# EAGLE library part MAX9708ECB (library Audio-Power-amlifier V.2.0)
The MAX9708 mono/stereo, Class D audio power amplifier delivers up to 2 x 21W into an 8Ω stereo mode and 1 x 42W into a 4Ω load in mono mode while offering up to 87% efficiency. The MAX9708 provides Class AB amplifier performance with the benefits of Class D efficiency, eliminating the need for a bulky heatsink and conserving power. The MAX9708 operates from a single +10V to +18V supply, driving the load in a BTL configuration. The MAX9708
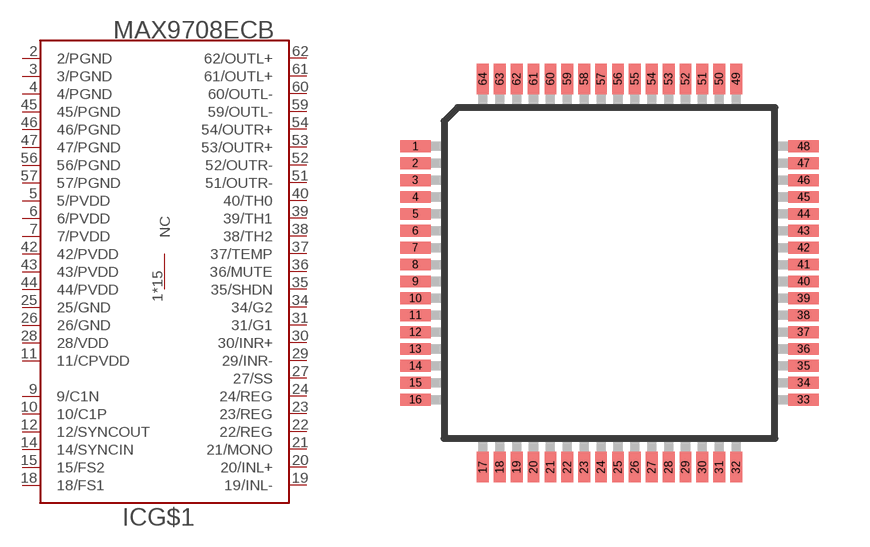
[diagram p236: symbol with the pads of TQFP64L-10X10X2.0MM; footprint TQFP64L-10X10X2.0MM]

Designator prefix IC; gates G$1=MAX9708ECB G$2=NC

## MAX9708ECBMAX9708ECB  [TQFP64L-10X10X2.0MM]
1  G$2:NC  nc
2  G$1:2/PGND  pwr
3  G$1:3/PGND  pwr
4  G$1:4/PGND  pwr
5  G$1:5/PVDD  pwr
6  G$1:6/PVDD  pwr
7  G$1:7/PVDD  pwr
8  G$2:NC  nc
9  G$1:9/C1N
10  G$1:10/C1P
11  G$1:11/CPVDD  pwr
12  G$1:12/SYNCOUT  out
13  G$2:NC  nc
14  G$1:14/SYNCIN  in
15  G$1:15/FS2
16  G$2:NC  nc
17  G$2:NC  nc
18  G$1:18/FS1
19  G$1:19/INL-  in
20  G$1:20/INL+  in
21  G$1:21/MONO  in
22  G$1:22/REG  out
23  G$1:23/REG  out
24  G$1:24/REG  out
25  G$1:25/GND  pwr
26  G$1:26/GND  pwr
27  G$1:27/SS
28  G$1:28/VDD  pwr
29  G$1:29/INR-  in
30  G$1:30/INR+  in
31  G$1:31/G1  in
32  G$2:NC  nc
33  G$2:NC  nc
34  G$1:34/G2  in
35  G$1:35/SHDN  in
36  G$1:36/MUTE  in
37  G$1:37/TEMP  out
38  G$1:38/TH2  in
39  G$1:39/TH1  in
40  G$1:40/TH0  in
41  G$2:NC  nc
42  G$1:42/PVDD  pwr
43  G$1:43/PVDD  pwr
44  G$1:44/PVDD  pwr
45  G$1:45/PGND  pwr
46  G$1:46/PGND  pwr
47  G$1:47/PGND  pwr
48  G$2:NC  nc
49  G$2:NC  nc
50  G$2:NC  nc
51  G$1:51/OUTR-  out
52  G$1:52/OUTR-  out
53  G$1:53/OUTR+  out
54  G$1:54/OUTR+  out
55  G$2:NC  nc
56  G$1:56/PGND  pwr
57  G$1:57/PGND  pwr
58  G$2:NC  nc
59  G$1:59/OUTL-  out
60  G$1:60/OUTL-  out
61  G$1:61/OUTL+  out
62  G$1:62/OUTL+  out
63  G$2:NC  nc
64  G$2:NC  nc

## Footprint TQFP64L-10X10X2.0MM (pad centres in mm)
TQFP 64L-10X10X1,4 MM www.maxim-ic.com/packages
smd 0.9 x 0.35: 1 -5.75,3.75; 2 -5.75,3.25; 3 -5.75,2.75; 4 -5.75,2.25; 5 -5.75,1.75; 6 -5.75,1.25; 7 -5.75,0.75; 8 -5.75,0.25; 9 -5.75,-0.25; 10 -5.75,-0.75; 11 -5.75,-1.25; 12 -5.75,-1.75; 13 -5.75,-2.25; 14 -5.75,-2.75; 15 -5.75,-3.25; 16 -5.75,-3.75; 33 5.75,-3.75; 34 5.75,-3.25; 35 5.75,-2.75; 36 5.75,-2.25; 37 5.75,-1.75; 38 5.75,-1.25; 39 5.75,-0.75; 40 5.75,-0.25; 41 5.75,0.25; 42 5.75,0.75; 43 5.75,1.25; 44 5.75,1.75; 45 5.75,2.25; 46 5.75,2.75; 47 5.75,3.25; 48 5.75,3.75
smd 0.35 x 0.9: 17 -3.75,-5.75; 18 -3.25,-5.75; 19 -2.75,-5.75; 20 -2.25,-5.75; 21 -1.75,-5.75; 22 -1.25,-5.75; 23 -0.75,-5.75; 24 -0.25,-5.75; 25 0.25,-5.75; 26 0.75,-5.75; 27 1.25,-5.75; 28 1.75,-5.75; 29 2.25,-5.75; 30 2.75,-5.75; 31 3.25,-5.75; 32 3.75,-5.75; 49 3.75,5.75; 50 3.25,5.75; 51 2.75,5.75; 52 2.25,5.75; 53 1.75,5.75; 54 1.25,5.75; 55 0.75,5.75; 56 0.25,5.75; 57 -0.25,5.75; 58 -0.75,5.75; 59 -1.25,5.75; 60 -1.75,5.75; 61 -2.25,5.75; 62 -2.75,5.75; 63 -3.25,5.75; 64 -3.75,5.75